# Altium schematic symbol library LT1111CS8-5#PBF.SchLib: 1 symbol
Pins are listed as number, name and electrical type; pins without a type are passive.

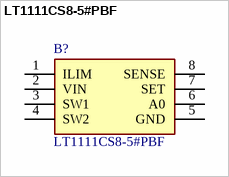
[diagram p0: symbol LT1111CS8-5#PBF]

## LT1111CS8-5#PBF
designator B?
Linear Technology LT1111CS8-5#PBF, Inverting, Step-Down/Up DC-DC Converter, 8-Pin SOIC; Manufacturer_Name: Analog Devices; Geometry.Height: 1.752mm; Mouser Part Number: 584-LT1111CS8-5#PBF; Mouser Price/Stock: https://www.mouser.co.uk/ProductDetail/Analog-Devices/LT1111CS8-5PBF?qs=ytflclh7QUXK7fNFBDePaQ%3D%3D; Manufacturer_Part_Number: LT1111CS8-5#PBF; Datasheet Link: https://datasheet.datasheetarchive.com/originals/distributors/SFDatasheet-4/sf-00090801.pdf
footprint SOIC127P599X175-8N
pins: 1 ILIM, 2 VIN, 3 SW1, 4 SW2, 5 GND, 6 A0, 7 SET, 8 SENSE